# Altium footprint library 2SCR533PFRAT100.PcbLib: 3 footprints
Each footprint in its own frame and in the unit in brackets; x right, y up, seen from the top. Pads: shape width x height; smd on the part's side, far side on the other; paste and mask are expansions set on the pad; w line width, h text height; cw(c..) or ccw(c..) is an arc to the next point about the centre after c.
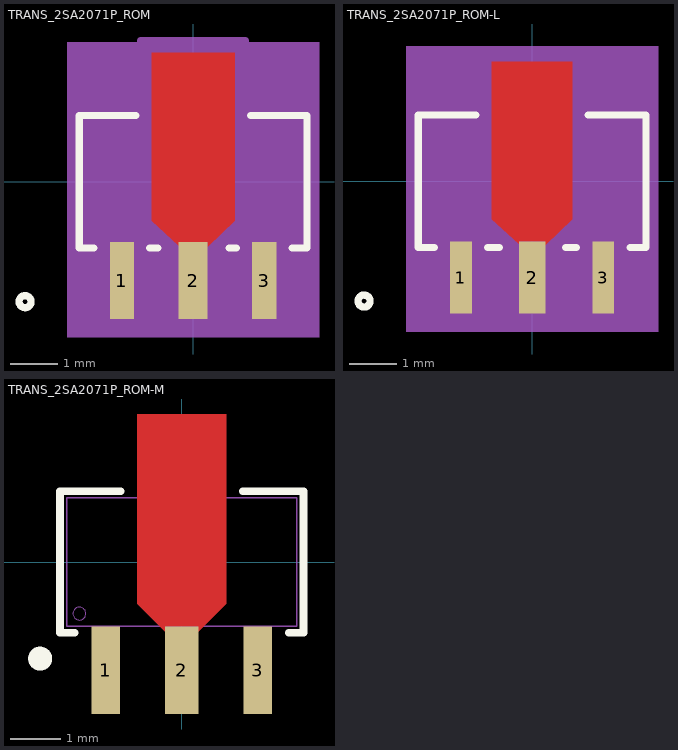
[diagram p0: the footprints below, top view; thin cyan lines are the x and y axes]

## TRANS_2SA2071P_ROM [mil]
pads (3):
  rect 20x64 smd paste+0 mask+0: 1(-59.06,-82) 3(59.06,-82)
  rect 24x64 smd paste+0 mask+0: 2(0,-82)
Top Layer:
  region: 12,-50 -12,-50 -12,-53 -34.5,-32.5 -34.5,107 34.5,107 34.5,-32.5 12,-54
Top Overlay:
  circle w6: c-139.5,-99.5 r5
  lines w6: -82.16,-55 -94.5,-55 -94.5,55 -47.6,55 ; -35.96,-55 -29.26,-55 ; 29.92,-55 35.96,-55 ; 47.6,55 94.5,55 94.5,-55 82.16,-55
Top Paste:
  region: 12,-50 -12,-50 -12,-53 -33.5,-31.5 -33.5,101 33.5,101 33.5,-31.5 12,-53
Top Solder:
  region: 12,-50 -12,-50 -12,-53 -33.5,-31.5 -33.5,101 33.5,101 33.5,-31.5 12,-53
Mechanical 5:
  region: -104.5,116 104.5,116 104.5,-129 -104.5,-129
Mechanical 13:
  circle w0: c-79.5,-40 r5
  lines w1: -89.5,-50 89.5,-50 89.5,50 -89.5,50 -89.5,-50 ; -69.06,-106 -69.06,-50 -49.06,-50 -49.06,-106 -69.06,-106 ; -12,-106 -12,-50 12,-50 12,-106 -12,-106 ; 49.06,-106 49.06,-50 69.06,-50 69.06,-106 49.06,-106
Mechanical 15:
  region: -99.5,-60 -99.5,60 -43.5,60 -43.5,117 43.5,117 43.5,60 99.5,60 99.5,-60 79.06,-60 79.06,-124 -79.06,-124 -79.06,-60
  lines w6: -99.5,-60 -99.5,60 -43.5,60 -43.5,117 43.5,117 43.5,60 99.5,60 99.5,-60 79.06,-60 79.06,-124 -79.06,-124 -79.06,-60 -99.5,-60
3D body "TRANS_2SA2071P_ROM.step": height 61.1, standoff 0, extent -89.49,-105.98 89.49,92.99

## TRANS_2SA2071P_ROM-L [mil]
pads (3):
  rect 18x60 smd paste+0 mask+0: 1(-59.06,-80) 3(59.06,-80)
  rect 22x60 smd paste+0 mask+0: 2(0,-80)
Top Layer:
  region: 11,-50 -11,-50 -11,-52 -33.5,-31.5 -33.5,99 33.5,99 33.5,-31.5 11,-53
Top Overlay:
  circle w6: c-139.5,-99.5 r5
  lines w6: -81.16,-55 -94.5,-55 -94.5,55 -46.6,55 ; -36.96,-55 -27.16,-55 ; 27.87,-55 36.96,-55 ; 46.6,55 94.5,55 94.5,-55 81.16,-55
Top Paste:
  region: 11,-49 -11,-49 -11,-52 -32.5,-30.5 -32.5,97 32.5,97 32.5,-30.5 11,-52
Top Solder:
  region: 11,-49 -11,-49 -11,-52 -32.5,-30.5 -32.5,97 32.5,97 32.5,-30.5 11,-52
Mechanical 5:
  region: -104.5,112 104.5,112 104.5,-125 -104.5,-125
Mechanical 13:
  circle w0: c-79.5,-40 r5
  lines w1: -89.5,-50 -89.5,50 89.5,50 89.5,-50 -89.5,-50 ; -69.06,-106 -49.06,-106 -49.06,-50 -69.06,-50 -69.06,-106 ; -12,-106 12,-106 12,-50 -12,-50 -12,-106 ; 49.06,-106 69.06,-106 69.06,-50 49.06,-50 49.06,-106
Mechanical 15:
  region: -99.5,-60 -99.5,60 -43.5,60 -43.5,109 43.5,109 43.5,60 99.5,60 99.5,-60 79.06,-60 79.06,-120 -79.06,-120 -79.06,-60
  lines w6: -99.5,-60 -79.06,-60 -79.06,-120 79.06,-120 79.06,-60 99.5,-60 99.5,60 43.5,60 43.5,109 -43.5,109 -43.5,60 -99.5,60 -99.5,-60
3D body "TRANS_2SA2071P_ROM.step": height 61.1, standoff 0, extent -89.49,-105.98 89.49,92.99

## TRANS_2SA2071P_ROM-M [mil]
pads (3):
  rect 22x68 smd paste+0 mask+0: 1(-59.06,-84) 3(59.06,-84)
  rect 26x68 smd paste+0 mask+0: 2(0,-84)
Top Layer:
  region: 13,-50 -13,-50 -13,-54 -34.5,-32.5 -34.5,115 34.5,115 34.5,-32.5 13,-54
Top Overlay:
  circle w10: c-110,-75 r4.3
  lines w6: -83.16,-55 -94.5,-55 -94.5,55 -47.6,55 ; 47.6,55 94.5,55 94.5,-55 83.16,-55
Top Paste:
  region: 13,-51 -13,-51 -13,-54 -34.5,-32.5 -34.5,105 34.5,105 34.5,-32.5 13,-54
Top Solder:
  region: 13,-51 -13,-51 -13,-54 -34.5,-32.5 -34.5,105 34.5,105 34.5,-32.5 13,-54
Mechanical 13:
  circle w0: c-79.5,-40 r5
  lines w1: -89.5,-50 -89.5,50 89.5,50 89.5,-50 -89.5,-50 ; -69.06,-106 -49.06,-106 -49.06,-50 -69.06,-50 -69.06,-106 ; -12,-106 12,-106 12,-50 -12,-50 -12,-106 ; 49.06,-106 69.06,-106 69.06,-50 49.06,-50 49.06,-106
3D body "TRANS_2SA2071P_ROM.step": height 61.1, standoff 0, extent -89.49,-105.98 89.49,92.99